# EAGLE library part 13P_DIN (library custom)
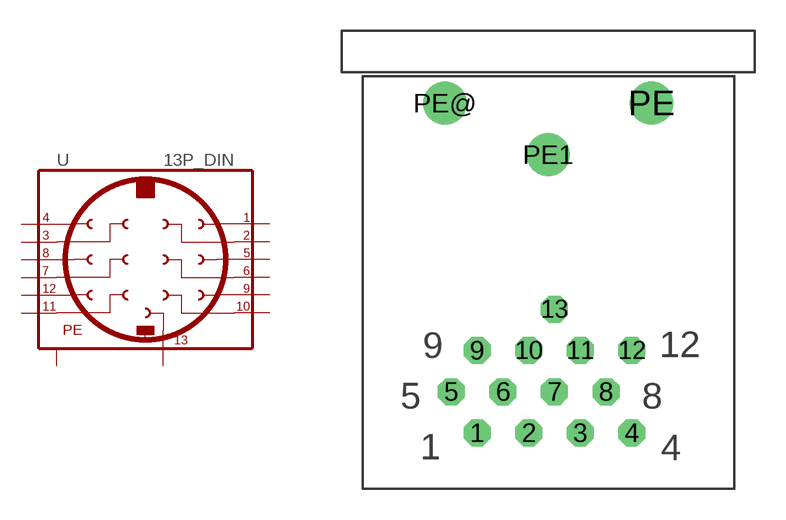
[diagram p4: symbol with the pads of 13P_DIN_BOARD; footprint 13P_DIN_BOARD]

Designator prefix -

## 13P_DIN  [13P_DIN_BOARD]
1  1  pas
2  2  pas
3  3  pas
4  4  pas
5  5  pas
6  6  pas
7  7  pas
8  8  pas
9  9  pas
10  10  pas
11  11  pas
12  12  pas
13  13  pas
PE1  PE  pwr

## Footprint 13P_DIN_BOARD (pad centres in mm)
drill 0.8 octagon: 1 -3.45,-18.5; 2 -0.95,-18.5; 3 1.55,-18.5; 4 4.05,-18.5; 5 -4.7,-16.5; 6 -2.2,-16.5; 7 0.3,-16.5; 8 2.8,-16.5; 9 -3.45,-14.5; 10 -0.95,-14.5; 11 1.55,-14.5; 12 4.05,-14.5; 13 0.3,-12.5
drill 1.4: PE 5,-2.5; PE1 0,-5; PE@ -5,-2.5